# Altium integrated library 7805.IntLib: 1 symbol
Pins are listed as number, name and electrical type; pins without a type are passive.

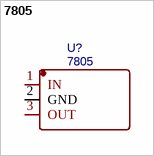
[diagram p0: symbol 7805]

## 7805
designator U?
BOM_Manufacturer: Foshan Blue Rocket Elec; Contributor: LCSC; BOM_Supplier: LCSC; BOM_Supplier Part: C305416; BOM_Manufacturer Part: 7805; spicePre: U; spiceSymbolName: 7805
footprint TO-220-3_L10.0-W4.5-P2.54-L
pins: 1 IN, 2 GND, 3 OUT